# Altium footprint library 74HC00D.PcbLib: 1 footprints
Each footprint in its own frame and in the unit in brackets; x right, y up, seen from the top. Pads: shape width x height; smd on the part's side, far side on the other; paste and mask are expansions set on the pad; w line width, h text height; cw(c..) or ccw(c..) is an arc to the next point about the centre after c.
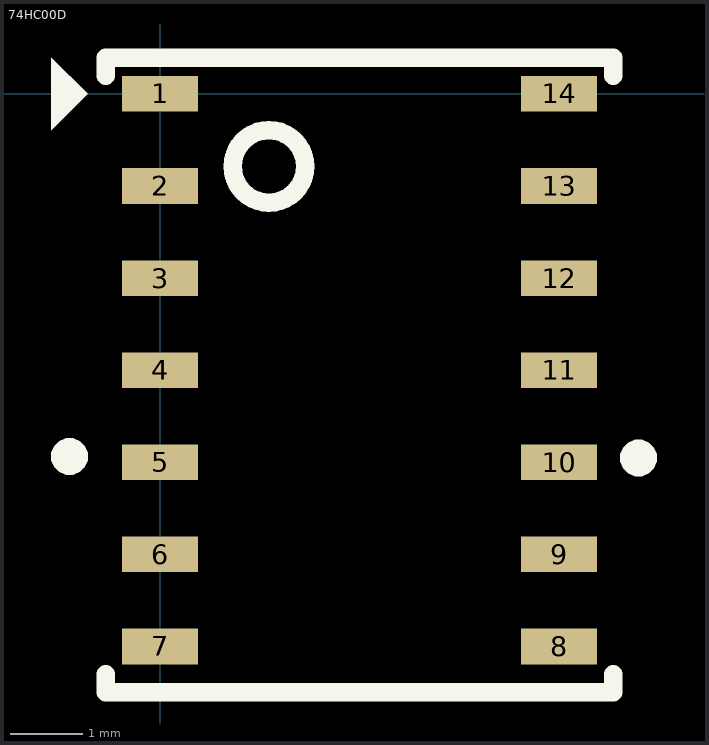
[diagram p0: the footprint, top view; thin cyan lines are the x and y axes]

## 74HC00D [mm]
height 2
pads (14):
  rect 1.05x0.49 smd mask+0.05: 1(0,0) 2(0,-1.27) 3(0,-2.54) 4(0,-3.81) 5(0,-5.08) 6(0,-6.35) 7(0,-7.62) 8(5.5,-7.62) 9(5.5,-6.35) 10(5.5,-5.08) 11(5.5,-3.81) 12(5.5,-2.54) 13(5.5,-1.27) 14(5.5,0)
Top Overlay:
  region: -1.25,-4.75 -1.2,-4.75 -1.108,-4.788 -1.038,-4.858 -1,-4.95 -1,-5 -1,-5.05 -1.038,-5.142 -1.108,-5.212 -1.2,-5.25 -1.25,-5.25 -1.3,-5.25 -1.392,-5.212 -1.462,-5.142 -1.5,-5.05 -1.5,-5 -1.5,-4.95 -1.462,-4.858 -1.392,-4.788 -1.3,-4.75 -1.25,-4.75
  region: -1,0 -1.5,0.5 -1.5,-0.5
  region: 6.596,-4.769 6.645,-4.769 6.737,-4.807 6.808,-4.877 6.846,-4.969 6.846,-5.019 6.846,-5.069 6.808,-5.161 6.737,-5.231 6.645,-5.269 6.596,-5.269 6.546,-5.269 6.454,-5.231 6.384,-5.161 6.346,-5.069 6.346,-5.019 6.346,-4.969 6.384,-4.877 6.454,-4.807 6.546,-4.769 6.596,-4.769
  lines w0.254: -0.75,-8 -0.75,-8.25 -0.25,-8.25 5.75,-8.25 6.25,-8.25 6.25,-8 ; -0.75,0.25 -0.75,0.5 6.25,0.5 6.25,0.25 ; 1,-1 cw(c1.5,-1) 1.5,-0.5 cw(c1.5,-1) 2,-1 cw(c1.5,-1) 1.5,-1.5 ; 1,-1 ccw(c1.5,-1) 1.5,-1.5 ; 1,-1 1,-1 ; 1.5,-1.5 1.5,-1.5
3D body "74HC00D,653.STEP": height 1.75, standoff 0, extent -0.25,-8.15 5.75,0.5